# EAGLE library part GMSTBV9 (library con-phoenix-508b)
PHOENIX
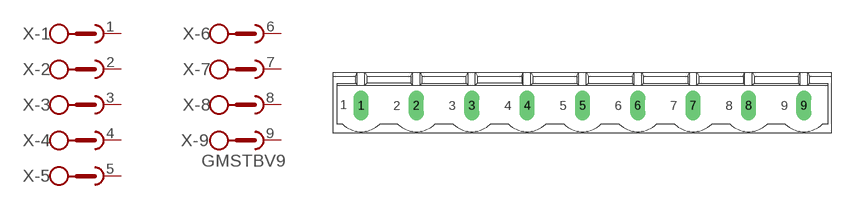
[diagram p9: symbol with the pads of GMSTBV9; footprint GMSTBV9]

Designator prefix X; gates -1=SKB -2=SKB -3=SKB -4=SKB -5=SKB -6=SKB -7=SKB -8=SKB -9=SKBV

## GMSTBV9  [GMSTBV9]
1  -1:1  pas
2  -2:1  pas
3  -3:1  pas
4  -4:1  pas
5  -5:1  pas
6  -6:1  pas
7  -7:1  pas
8  -8:1  pas
9  -9:1  pas

## Footprint GMSTBV9 (pad centres in mm)
PHOENIX
drill 1.397 long: 1 -30.48,0; 2 -22.86,0; 3 -15.24,0; 4 -7.62,0; 5 0,0; 6 7.62,0; 7 15.24,0; 8 22.86,0; 9 30.48,0